# EAGLE library part SK9822 (library PP_LED)
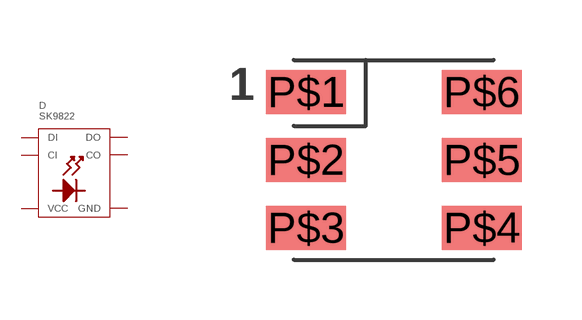
[diagram p6: symbol with the pads of SK9822_5050; footprint SK9822_5050]

Designator prefix D

## SK98225050  [SK9822_5050]
P$1  DI
P$2  CI
P$3  GND
P$4  VCC
P$5  CO
P$6  DO

## Footprint SK9822_5050 (pad centres in mm)
smd 2 x 1.1: P$1 -2.2,1.7; P$2 -2.2,0; P$3 -2.2,-1.7; P$4 2.2,-1.7; P$5 2.2,0; P$6 2.2,1.7